# EAGLE library part CASSETTEPORT (library 326298_rev_a)
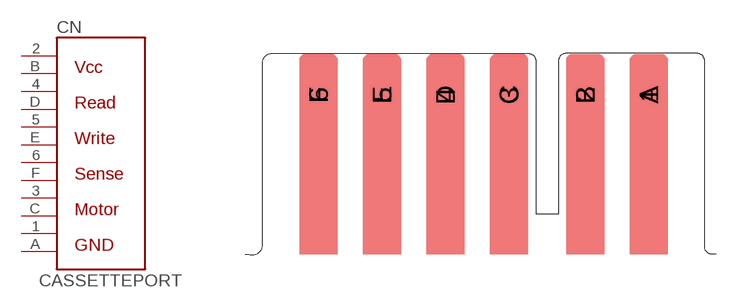
[diagram p2: symbol with the pads of CASSETTEPORT; footprint CASSETTEPORT]

Designator prefix CN

## CASSETTEPORT  [CASSETTEPORT]
1  GND1  pas
2  VCC1  pas
3  MOTOR1  in
4  READ1  out
5  WRITE1  in
6  SENSE1  out
A  GND2  pas
B  VCC2  pas
C  MOTOR2  in
D  READ2  pas
E  WRITE2  in
F  SENSE2  pas

## Footprint CASSETTEPORT (pad centres in mm)
smd 2.35 x 5.08: 1 9.825,4.95; 2 5.875,4.95; 3 1.125,4.95; 4 -2.825,4.95; 5 -6.775,4.95; 6 -10.725,4.95
smd 2.35 x 5.08 bottom: A 9.825,4.95; B 5.875,4.95; C 1.125,4.95; D -2.825,4.95; E -6.775,4.95; F -10.725,4.95